# EAGLE library part ADC12DL2500ACF (library ADC12DL2500ACF)
12 Bit Analog to Digital Converter 1, 2 Input 2 Folding Interpolating 256-FCBGA (17x17) Source: Datasheet <https://www.ti.com/lit/ds/symlink/adc12dl2500.pdf?ts=1717147635434&ref_url=https%3A%2F%2Fwww.ti.com%2Fproduct%2FADC12DL2500%2Fpart-details%2FADC12DL2500ACF>
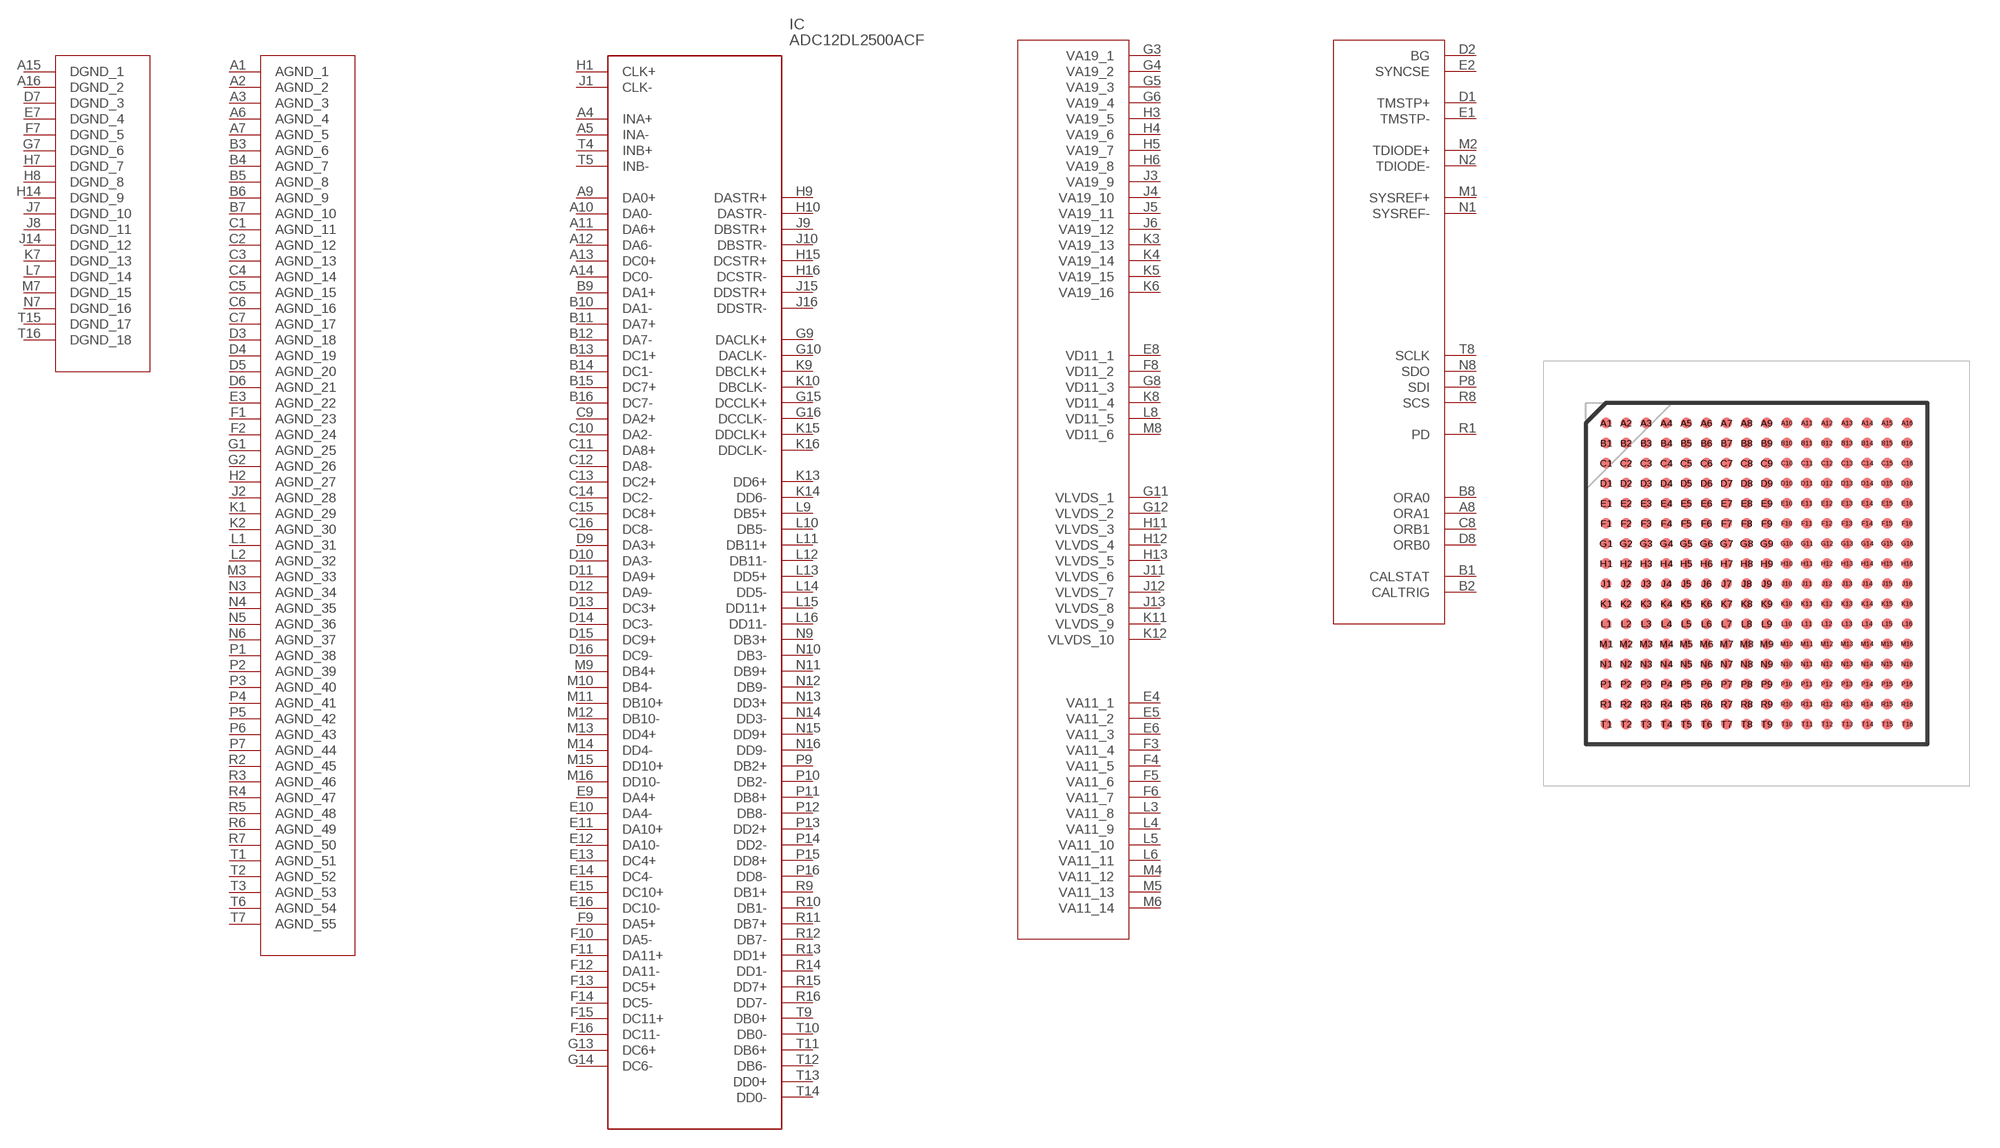
[diagram p0: symbol with the pads of BGA256C100P16X16_1700X1700X331; footprint BGA256C100P16X16_1700X1700X331]

Designator prefix IC

## ADC12DL2500ACF (DESCRIPTION: 12 Bit Analog to Digital Converter 1, 2 Input 2 Folding Interpolating 256-FCBGA (17x17); HEIGHT: 3.31mm; MANUFACTURER_NAME: Texas Instruments; MANUFACTURER_PART_NUMBER: ADC12DL2500ACF)  [BGA256C100P16X16_1700X1700X331]
A1  AGND_1
A2  AGND_2
A3  AGND_3
A4  INA+
A5  INA-
A6  AGND_4
A7  AGND_5
A8  ORA1
A9  DA0+
A10  DA0-
A11  DA6+
A12  DA6-
A13  DC0+
A14  DC0-
A15  DGND_1
A16  DGND_2
B1  CALSTAT
B2  CALTRIG
B3  AGND_6
B4  AGND_7
B5  AGND_8
B6  AGND_9
B7  AGND_10
B8  ORA0
B9  DA1+
B10  DA1-
B11  DA7+
B12  DA7-
B13  DC1+
B14  DC1-
B15  DC7+
B16  DC7-
C1  AGND_11
C2  AGND_12
C3  AGND_13
C4  AGND_14
C5  AGND_15
C6  AGND_16
C7  AGND_17
C8  ORB1
C9  DA2+
C10  DA2-
C11  DA8+
C12  DA8-
C13  DC2+
C14  DC2-
C15  DC8+
C16  DC8-
D1  TMSTP+
D2  BG
D3  AGND_18
D4  AGND_19
D5  AGND_20
D6  AGND_21
D7  DGND_3
D8  ORB0
D9  DA3+
D10  DA3-
D11  DA9+
D12  DA9-
D13  DC3+
D14  DC3-
D15  DC9+
D16  DC9-
E1  TMSTP-
E2  SYNCSE
E3  AGND_22
E4  VA11_1
E5  VA11_2
E6  VA11_3
E7  DGND_4
E8  VD11_1
E9  DA4+
E10  DA4-
E11  DA10+
E12  DA10-
E13  DC4+
E14  DC4-
E15  DC10+
E16  DC10-
F1  AGND_23
F2  AGND_24
F3  VA11_4
F4  VA11_5
F5  VA11_6
F6  VA11_7
F7  DGND_5
F8  VD11_2
F9  DA5+
F10  DA5-
F11  DA11+
F12  DA11-
F13  DC5+
F14  DC5-
F15  DC11+
F16  DC11-
G1  AGND_25
G2  AGND_26
G3  VA19_1
G4  VA19_2
G5  VA19_3
G6  VA19_4
G7  DGND_6
G8  VD11_3
G9  DACLK+
G10  DACLK-
G11  VLVDS_1
G12  VLVDS_2
G13  DC6+
G14  DC6-
G15  DCCLK+
G16  DCCLK-
H1  CLK+
H2  AGND_27
H3  VA19_5
H4  VA19_6
H5  VA19_7
H6  VA19_8
H7  DGND_7
H8  DGND_8
H9  DASTR+
H10  DASTR-
H11  VLVDS_3
H12  VLVDS_4
H13  VLVDS_5
H14  DGND_9
H15  DCSTR+
H16  DCSTR-
J1  CLK-
J2  AGND_28
J3  VA19_9
J4  VA19_10
J5  VA19_11
J6  VA19_12
J7  DGND_10
J8  DGND_11
J9  DBSTR+
J10  DBSTR-
J11  VLVDS_6
J12  VLVDS_7
J13  VLVDS_8
J14  DGND_12
J15  DDSTR+
J16  DDSTR-
K1  AGND_29
K2  AGND_30
K3  VA19_13
K4  VA19_14
K5  VA19_15
K6  VA19_16
K7  DGND_13
K8  VD11_4
K9  DBCLK+
K10  DBCLK-
K11  VLVDS_9
K12  VLVDS_10
K13  DD6+
K14  DD6-
K15  DDCLK+
K16  DDCLK-
L1  AGND_31
L2  AGND_32
L3  VA11_8
L4  VA11_9
L5  VA11_10
L6  VA11_11
L7  DGND_14
L8  VD11_5
L9  DB5+
L10  DB5-
L11  DB11+
L12  DB11-
L13  DD5+
L14  DD5-
L15  DD11+
L16  DD11-
M1  SYSREF+
M2  TDIODE+
M3  AGND_33
M4  VA11_12
M5  VA11_13
M6  VA11_14
M7  DGND_15
M8  VD11_6
M9  DB4+
M10  DB4-
M11  DB10+
M12  DB10-
M13  DD4+
M14  DD4-
M15  DD10+
M16  DD10-
N1  SYSREF-
N2  TDIODE-
N3  AGND_34
N4  AGND_35
N5  AGND_36
N6  AGND_37
N7  DGND_16
N8  SDO
N9  DB3+
N10  DB3-
N11  DB9+
N12  DB9-
N13  DD3+
N14  DD3-
N15  DD9+
N16  DD9-
P1  AGND_38
P2  AGND_39
P3  AGND_40
P4  AGND_41
P5  AGND_42
P6  AGND_43
P7  AGND_44
P8  SDI
P9  DB2+
P10  DB2-
P11  DB8+
P12  DB8-
P13  DD2+
P14  DD2-
P15  DD8+
P16  DD8-
R1  PD
R2  AGND_45
R3  AGND_46
R4  AGND_47
R5  AGND_48
R6  AGND_49
R7  AGND_50
R8  SCS
R9  DB1+
R10  DB1-
R11  DB7+
R12  DB7-
R13  DD1+
R14  DD1-
R15  DD7+
R16  DD7-
T1  AGND_51
T2  AGND_52
T3  AGND_53
T4  INB+
T5  INB-
T6  AGND_54
T7  AGND_55
T8  SCLK
T9  DB0+
T10  DB0-
T11  DB6+
T12  DB6-
T13  DD0+
T14  DD0-
T15  DGND_17
T16  DGND_18

## Footprint BGA256C100P16X16_1700X1700X331 (pad centres in mm)
ACF0256A_2021
smd 0.53 x 0.53: A1 -7.5,7.5; A2 -6.5,7.5; A3 -5.5,7.5; A4 -4.5,7.5; A5 -3.5,7.5; A6 -2.5,7.5; A7 -1.5,7.5; A8 -0.5,7.5; A9 0.5,7.5; A10 1.5,7.5; A11 2.5,7.5; A12 3.5,7.5; A13 4.5,7.5; A14 5.5,7.5; A15 6.5,7.5; A16 7.5,7.5; B1 -7.5,6.5; B2 -6.5,6.5; B3 -5.5,6.5; B4 -4.5,6.5; B5 -3.5,6.5; B6 -2.5,6.5; B7 -1.5,6.5; B8 -0.5,6.5; B9 0.5,6.5; B10 1.5,6.5; B11 2.5,6.5; B12 3.5,6.5; B13 4.5,6.5; B14 5.5,6.5; B15 6.5,6.5; B16 7.5,6.5; C1 -7.5,5.5; C2 -6.5,5.5; C3 -5.5,5.5; C4 -4.5,5.5; C5 -3.5,5.5; C6 -2.5,5.5; C7 -1.5,5.5; C8 -0.5,5.5; C9 0.5,5.5; C10 1.5,5.5; C11 2.5,5.5; C12 3.5,5.5; C13 4.5,5.5; C14 5.5,5.5; C15 6.5,5.5; C16 7.5,5.5; D1 -7.5,4.5; D2 -6.5,4.5; D3 -5.5,4.5; D4 -4.5,4.5; D5 -3.5,4.5; D6 -2.5,4.5; D7 -1.5,4.5; D8 -0.5,4.5; D9 0.5,4.5; D10 1.5,4.5; D11 2.5,4.5; D12 3.5,4.5; D13 4.5,4.5; D14 5.5,4.5; D15 6.5,4.5; D16 7.5,4.5; E1 -7.5,3.5; E2 -6.5,3.5; E3 -5.5,3.5; E4 -4.5,3.5; E5 -3.5,3.5; E6 -2.5,3.5; E7 -1.5,3.5; E8 -0.5,3.5; E9 0.5,3.5; E10 1.5,3.5; E11 2.5,3.5; E12 3.5,3.5; E13 4.5,3.5; E14 5.5,3.5; E15 6.5,3.5; E16 7.5,3.5; F1 -7.5,2.5; F2 -6.5,2.5; F3 -5.5,2.5; F4 -4.5,2.5; F5 -3.5,2.5; F6 -2.5,2.5; F7 -1.5,2.5; F8 -0.5,2.5; F9 0.5,2.5; F10 1.5,2.5; F11 2.5,2.5; F12 3.5,2.5; F13 4.5,2.5; F14 5.5,2.5; F15 6.5,2.5; F16 7.5,2.5; G1 -7.5,1.5; G2 -6.5,1.5; G3 -5.5,1.5; G4 -4.5,1.5; G5 -3.5,1.5; G6 -2.5,1.5; G7 -1.5,1.5; G8 -0.5,1.5; G9 0.5,1.5; G10 1.5,1.5; G11 2.5,1.5; G12 3.5,1.5; G13 4.5,1.5; G14 5.5,1.5; G15 6.5,1.5; G16 7.5,1.5; H1 -7.5,0.5; H2 -6.5,0.5; H3 -5.5,0.5; H4 -4.5,0.5; H5 -3.5,0.5; H6 -2.5,0.5; H7 -1.5,0.5; H8 -0.5,0.5; H9 0.5,0.5; H10 1.5,0.5; H11 2.5,0.5; H12 3.5,0.5; H13 4.5,0.5; H14 5.5,0.5; H15 6.5,0.5; H16 7.5,0.5; J1 -7.5,-0.5; J2 -6.5,-0.5; J3 -5.5,-0.5; J4 -4.5,-0.5; J5 -3.5,-0.5; J6 -2.5,-0.5; J7 -1.5,-0.5; J8 -0.5,-0.5; J9 0.5,-0.5; J10 1.5,-0.5; J11 2.5,-0.5; J12 3.5,-0.5; J13 4.5,-0.5; J14 5.5,-0.5; J15 6.5,-0.5; J16 7.5,-0.5; K1 -7.5,-1.5; K2 -6.5,-1.5; K3 -5.5,-1.5; K4 -4.5,-1.5; K5 -3.5,-1.5; K6 -2.5,-1.5; K7 -1.5,-1.5; K8 -0.5,-1.5; K9 0.5,-1.5; K10 1.5,-1.5; K11 2.5,-1.5; K12 3.5,-1.5; K13 4.5,-1.5; K14 5.5,-1.5; K15 6.5,-1.5; K16 7.5,-1.5; L1 -7.5,-2.5; L2 -6.5,-2.5; L3 -5.5,-2.5; L4 -4.5,-2.5; L5 -3.5,-2.5; L6 -2.5,-2.5; L7 -1.5,-2.5; L8 -0.5,-2.5; L9 0.5,-2.5; L10 1.5,-2.5; L11 2.5,-2.5; L12 3.5,-2.5; L13 4.5,-2.5; L14 5.5,-2.5; L15 6.5,-2.5; L16 7.5,-2.5; M1 -7.5,-3.5; M2 -6.5,-3.5; M3 -5.5,-3.5; M4 -4.5,-3.5; M5 -3.5,-3.5; M6 -2.5,-3.5; M7 -1.5,-3.5; M8 -0.5,-3.5; M9 0.5,-3.5; M10 1.5,-3.5; M11 2.5,-3.5; M12 3.5,-3.5; M13 4.5,-3.5; M14 5.5,-3.5; M15 6.5,-3.5; M16 7.5,-3.5; N1 -7.5,-4.5; N2 -6.5,-4.5; N3 -5.5,-4.5; N4 -4.5,-4.5; N5 -3.5,-4.5; N6 -2.5,-4.5; N7 -1.5,-4.5; N8 -0.5,-4.5; N9 0.5,-4.5; N10 1.5,-4.5; N11 2.5,-4.5; N12 3.5,-4.5; N13 4.5,-4.5; N14 5.5,-4.5; N15 6.5,-4.5; N16 7.5,-4.5; P1 -7.5,-5.5; P2 -6.5,-5.5; P3 -5.5,-5.5; P4 -4.5,-5.5; P5 -3.5,-5.5; P6 -2.5,-5.5; P7 -1.5,-5.5; P8 -0.5,-5.5; P9 0.5,-5.5; P10 1.5,-5.5; P11 2.5,-5.5; P12 3.5,-5.5; P13 4.5,-5.5; P14 5.5,-5.5; P15 6.5,-5.5; P16 7.5,-5.5; R1 -7.5,-6.5; R2 -6.5,-6.5; R3 -5.5,-6.5; R4 -4.5,-6.5; R5 -3.5,-6.5; R6 -2.5,-6.5; R7 -1.5,-6.5; R8 -0.5,-6.5; R9 0.5,-6.5; R10 1.5,-6.5; R11 2.5,-6.5; R12 3.5,-6.5; R13 4.5,-6.5; R14 5.5,-6.5; R15 6.5,-6.5; R16 7.5,-6.5; T1 -7.5,-7.5; T2 -6.5,-7.5; T3 -5.5,-7.5; T4 -4.5,-7.5; T5 -3.5,-7.5; T6 -2.5,-7.5; T7 -1.5,-7.5; T8 -0.5,-7.5; T9 0.5,-7.5; T10 1.5,-7.5; T11 2.5,-7.5; T12 3.5,-7.5; T13 4.5,-7.5; T14 5.5,-7.5; T15 6.5,-7.5; T16 7.5,-7.5